# EAGLE library part OPA2333 (library op-amp)
OP-AMP
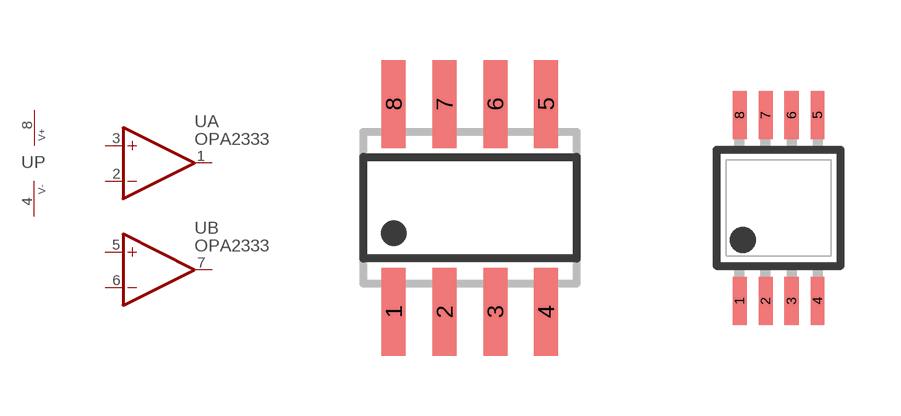
[diagram p71: symbol with the pads of SO08; footprints SO08, VSSOP8]

Designator prefix U; gates A=OPAMP_NV B=OPAMP_NV P=PWR+-

## OPA2333D  [SO08]
1  A:OUT  out
2  A:-IN  in
3  A:+IN  in
4  P:V-  pwr
5  B:+IN  in
6  B:-IN  in
7  B:OUT  out
8  P:V+  pwr

## OPA2333DGK  [VSSOP8]
Pads as for SO08

## Footprint SO08 (pad centres in mm)
SMALL OUTLINE INTEGRATED CIRCUIT body 3.9 mm/JEDEC MS-012AA
smd 0.6 x 2.2: 1 -1.905,-2.6; 2 -0.635,-2.6; 3 0.635,-2.6; 4 1.905,-2.6; 5 1.905,2.6; 6 0.635,2.6; 7 -0.635,2.6; 8 -1.905,2.6

## Footprint VSSOP8 (pad centres in mm)
VSSOP 8 - DGK (S-PDSO-G8) body 3.1 mm
smd 0.35 x 1.2: 1 -0.975,-2.325; 2 -0.325,-2.325; 3 0.325,-2.325; 4 0.975,-2.325; 5 0.975,2.325; 6 0.325,2.325; 7 -0.325,2.325; 8 -0.975,2.325